# EAGLE library part DRAGINO-MS12 (library 00shaunc)
Dragino MS12 Symbol and footprint for a Dragino MS12 daughter board. Note: The footprint should be placed on the top layer (i.e., the component side) although the pin headers are actually soldered on the bottom layer (i.e., the solder side) of the daughter board.
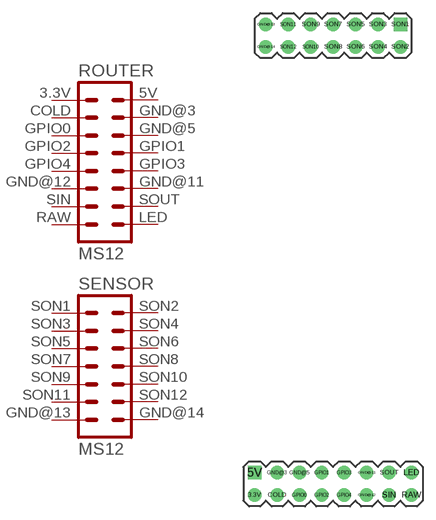
[diagram p10: symbol with the pads of DRAGINO_MS12; footprint DRAGINO_MS12]

Designator prefix -

## DRAGINO-MS12  [DRAGINO_MS12]
3.3V  3.3V  pas
5V  5V  pas
COLD  COLD  pas
GND@3  GND  pas
GND@5  GND  pas
GND@11  GND  pas
GND@12  GND  pas
GND@13  GND  pas
GND@14  GND  pas
GPIO0  GPIO0  pas
GPIO1  GPIO1  pas
GPIO2  GPIO2  pas
GPIO3  GPIO3  pas
GPIO4  GPIO4  pas
LED  LED  pas
RAW  RAW  pas
SIN  SIN  pas
SON1  SON1  pas
SON2  SON2  pas
SON3  SON3  pas
SON4  SON4  pas
SON5  SON5  pas
SON6  SON6  pas
SON7  SON7  pas
SON8  SON8  pas
SON9  SON9  pas
SON10  SON10  pas
SON11  SON11  pas
SON12  SON12  pas
SOUT  SOUT  pas

## Footprint DRAGINO_MS12 (pad centres in mm)
drill 1.016: 3.3V -8.89,-26.67; COLD -6.35,-26.67; GND@3 -6.35,-24.13; GND@5 -3.81,-24.13; GND@11 3.81,-24.13; GND@12 3.81,-26.67; GND@13 -7.62,26.67; GND@14 -7.62,24.13; GPIO0 -3.81,-26.67; GPIO1 -1.27,-24.13; GPIO2 -1.27,-26.67; GPIO3 1.27,-24.13; GPIO4 1.27,-26.67; LED 8.89,-24.13; RAW 8.89,-26.67; SIN 6.35,-26.67; SON2 7.62,24.13; SON3 5.08,26.67; SON4 5.08,24.13; SON5 2.54,26.67; SON6 2.54,24.13; SON7 0,26.67; SON8 0,24.13; SON9 -2.54,26.67; SON10 -2.54,24.13; SON11 -5.08,26.67; SON12 -5.08,24.13; SOUT 6.35,-24.13
drill 1.016 square: 5V -8.89,-24.13; SON1 7.62,26.67